# Altium footprint library aiwac_LCD.PcbLib: 26 footprints (part 2 of 2)
Each footprint in its own frame and in the unit in brackets; x right, y up, seen from the top. Pads: shape width x height; smd on the part's side, far side on the other; paste and mask are expansions set on the pad; w line width, h text height; cw(c..) or ccw(c..) is an arc to the next point about the centre after c.
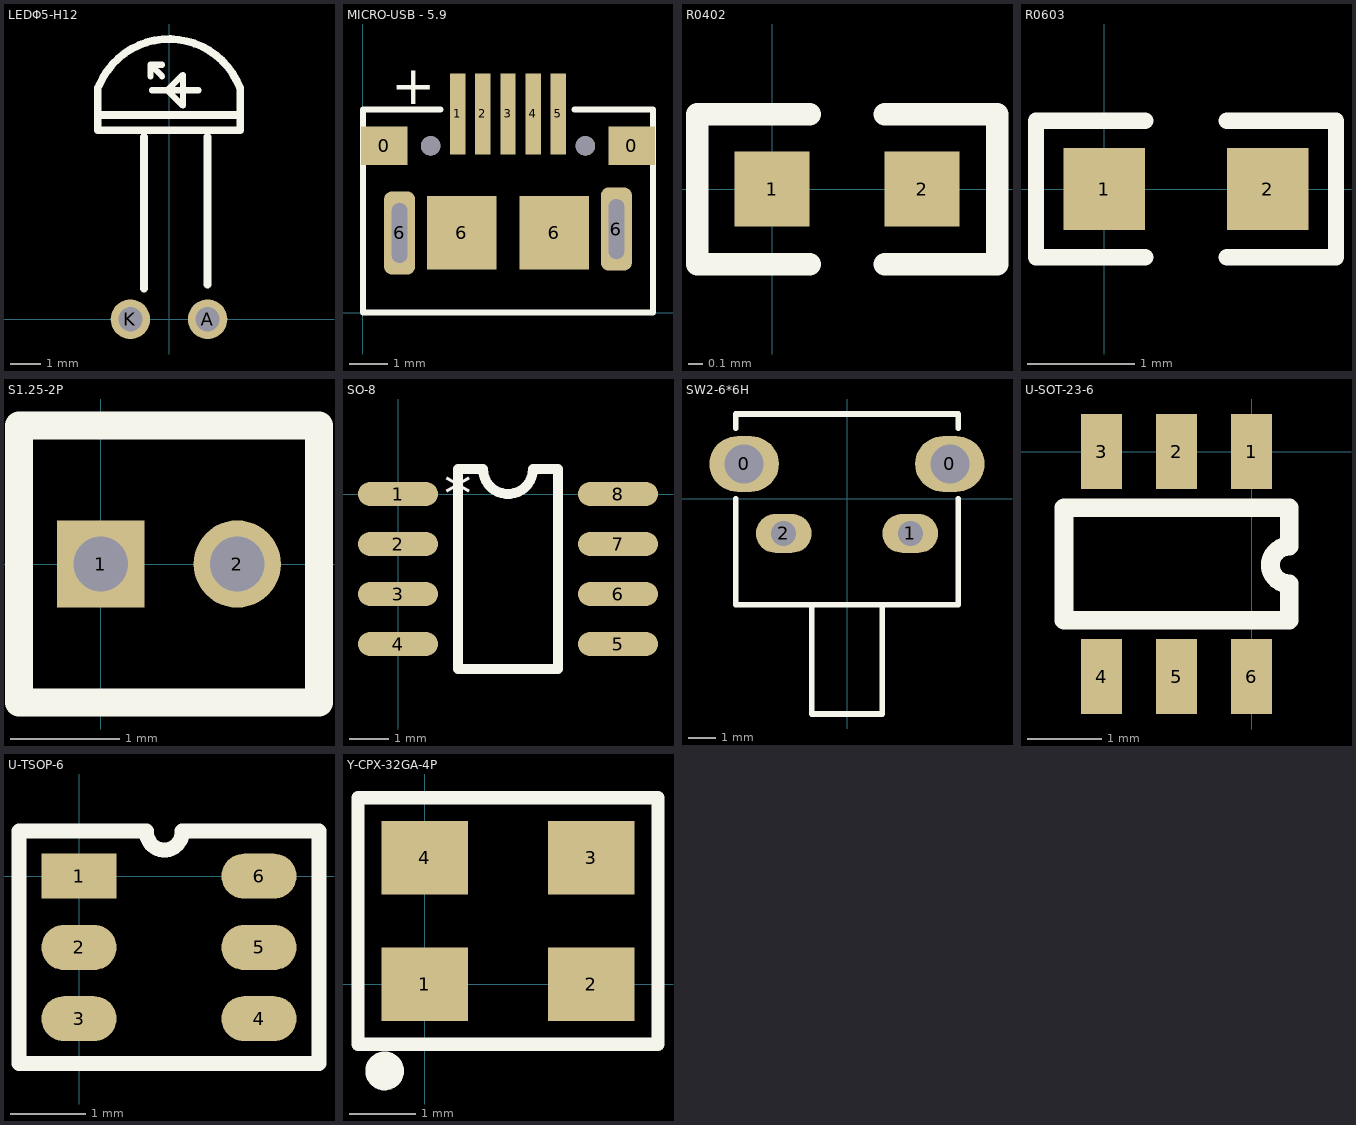
[diagram p1: the footprints below, top view; thin cyan lines are the x and y axes]

## LEDΦ5-H12 [mm] "LEDΦ5-12mm隔空90度插件"
height 12
pads (2):
  round 1.3 hole 0.8: A(1.27,0) K(-1.27,0)
Top Overlay:
  lines w0.2: -0.61,8.001 -0.61,8.382 ; -0.559,7.544 0.965,7.544 ; -0.229,8.001 -0.61,8.382 ; -0.229,8.382 -0.61,8.382 ; -0.051,7.544 0.457,7.036 0.457,8.052 -0.051,7.544
  lines w0.254: -2.35,7.62 -2.35,6.223 2.35,6.223 2.35,7.62 ; -2.298,7.716 cw(c0,6.731) 2.336,7.621 ; -2.286,6.731 2.286,6.731 ; -0.826,1.016 -0.826,6 ; 1.27,1.143 1.27,6

## MICRO-USB - 5.9 [mm]
pads (13):
  rect 1.2x1 smd: 0(0.55,4.307) 0(6.95,4.307)
  rect 0.4x2.1 smd: 1(2.45,5.132) 2(3.1,5.132) 3(3.75,5.132) 4(4.4,5.132) 5(5.05,5.132)
  rrect50% 0.8x2.15 hole 0.4 slot 1.55 at 90 deg: 6(0.95,2.057) 6(6.55,2.157)
  rect 1.8x1.9 smd: 6(2.556,2.057) 6(4.943,2.057)
  round 0.5 hole 0.5 unplated: ""(1.75,4.307) ""(5.75,4.307)
Top Overlay:
  lines w0.152: 2.007,5.25 0,5.25 0,0 7.5,0 7.5,5.25 5.469,5.25
  text "+" at 0.737,5.385 h1

## R0402 [mil]
height 10
pads (2):
  rect 20x20 smd: 1(0,0) 2(40,0)
Top Overlay:
  lines w6: 10,-20 -20,-20 -20,20 10,20 ; 30,-20 60,-20 60,20 30,20
3D body "R0402.STEP": height 13.78, standoff 0, extent 0.32,-10 39.69,9.68

## R0603 [mil]
height 12
pads (2):
  rect 30x30 smd: 1(0,0) 2(60,0)
Top Overlay:
  lines w6: 15,-25 -25,-25 -25,25 15,25 ; 45,-25 85,-25 85,25 45,25
3D body "R0603.STEP": height 17.72, standoff 0, extent -0.5,-16 62.5,15.5

## S1.25-2P [mm]
pads (2):
  rect 0.8x0.8 hole 0.5: 1(0,0)
  round 0.8 hole 0.5: 2(1.25,0)
Top Overlay:
  lines w0.254: -0.75,-1.27 2,-1.27 2,1.27 -0.75,1.27 -0.75,-1.27
3D body: height 8, standoff -2, extent -0.406,-0.406 0.39,0.392

## SO-8 [mil]
pads (8):
  oval 80x24 smd: 1(0,0) 2(0,-50) 3(0,-100) 4(0,-150) 5(220,-150) 6(220,-100) 7(220,-50) 8(220,0)
Top Overlay:
  lines w10: 60,-175 160,-175 160,25 135,25 cw(c110,25) 85,25 60,25 60,-175
  text "*" at 46,-19 h40

## SW2-6*6H [mm] "2脚按键-6*6 横按"
height 1.2
pads (4):
  oval 2.5x2 hole 1.4: 0(-3.7,1.25) 0(3.7,1.25)
  oval 2x1.4 hole 0.9: 1(2.28,-1.25) 2(-2.28,-1.25)
Top Overlay:
  lines w0.2: -4,0 -4,-3.81 4,-3.81 4,0 ; -4,2.54 -4,3.048 3.937,3.048 ; 4,2.54 4,3.048 ; -1.27,-7.747 -1.27,-3.81 1.27,-3.81 1.27,-7.747 -1.27,-7.747
3D body: height 5.65, standoff 2.15, extent -1.757,-7.829 1.743,-3.429
3D body: height 2.5, standoff 1.5, extent 0.635,-0.254 3.683,0.127
3D body: height 7, standoff -1.5, extent 1.805,-1.504 2.694,-0.996
3D body: height 6.7, standoff 5.6, extent 0.635,-0.254 3.683,0.127
3D body: height 6.9, standoff 0.5, extent 0.635,-0.254 1.651,0.127
3D body: height 6.6, standoff 5.6, extent 1.786,-3.8 2.777,-2.804
3D body: height 2.4, standoff 1.4, extent 1.786,-3.8 2.777,-2.804
3D body: height 2.4, standoff 1.4, extent -2.777,-3.8 -1.786,-2.804
3D body: height 6.6, standoff 5.6, extent -2.777,-3.8 -1.786,-2.804
3D body: height 6.9, standoff 0.5, extent -1.651,-0.254 -0.635,0.127
3D body: height 6.7, standoff 5.6, extent -3.683,-0.254 -0.635,0.127
3D body: height 7, standoff -1.5, extent -2.694,-1.504 -1.805,-0.996
3D body: height 6.9, standoff 0, extent -3.683,-3.175 3.81,-0.254
3D body: height 7.1, standoff 0, extent -3.937,-3.429 4.064,3.048
3D body: height 2.5, standoff 1.5, extent -3.683,-0.254 -0.635,0.127
3D body: height 7, standoff -1.5, extent -3.937,0.826 -3.683,1.715
3D body: height 7, standoff -1.5, extent 3.683,0.826 3.937,1.715

## U-SOT-23-6 [mil]
pads (6):
  rect 22x40 smd: 1(0,0) 2(-40,0) 3(-80,0) 4(-80,-120) 5(-40,-120) 6(0,-120)
Top Overlay:
  lines w10: 20,-73 20,-90 -100,-90 -100,-30 20,-30 20,-50.56 ccw(c20,-60.56) 20,-70.56
3D body: height 10, standoff 0, extent -49.5,-127 -30.5,-85
3D body: height 10, standoff 0, extent -9.5,-127 9.5,-85
3D body: height 10, standoff 0, extent -89.5,-127 -70.5,-85
3D body: height 10, standoff 0, extent -9.5,-32 9.5,10
3D body: height 10, standoff 0, extent -49.5,-32 -30.5,10
3D body: height 59.06, standoff 3.94, extent -101,-89 19,-29
3D body: height 10, standoff 0, extent -89.5,-32 -70.5,10

## U-TSOP-6 [mm]
pads (6):
  rect 1x0.6 smd: 1(0,0)
  oval 1x0.6 smd: 2(0,-0.95) 3(0,-1.9) 4(2.4,-1.9) 5(2.4,-0.95) 6(2.4,0)
Top Overlay:
  lines w0.2: -0.8,-2.5 3.2,-2.5 3.2,0.6 1.375,0.6 cw(c1.138,0.587) 0.9,0.6 -0.8,0.6 -0.8,-2.5

## Y-CPX-32GA-4P [mm]
pads (4):
  rect 1.3x1.1 smd: 1(0,0) 2(2.5,0) 3(2.5,1.9) 4(0,1.9)
Top Overlay:
  circle w0.3: c-0.6,-1.3 r0.141
  lines w0.2: -1,-0.9 -1,0.4 -1,2.8 3.5,2.8 3.5,-0.9 -1,-0.9